# EAGLE library part SIM900 (library sim900)
Footprint for Sim900 board
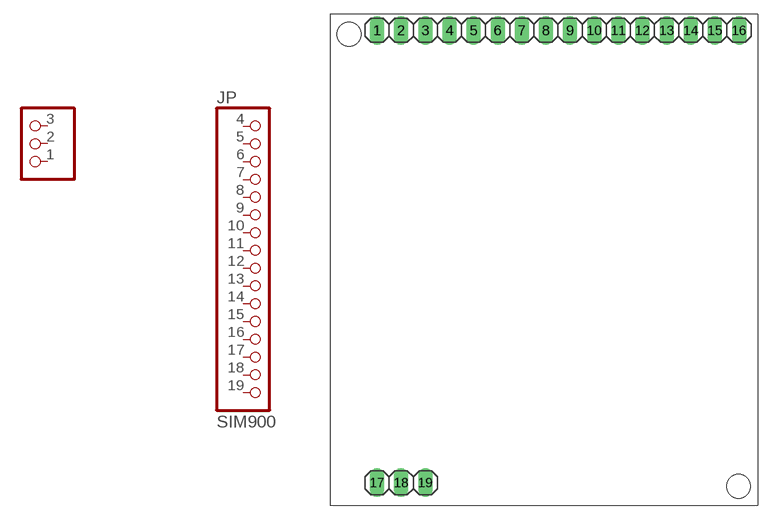
[diagram p0: symbol with the pads of SIM900; footprint SIM900]

Designator prefix JP

## SIM900  [SIM900]
1  1-PWR  pas
2  2-GND  pas
3  3-VCC  pas
4  4-MIC1P  pas
5  5-MIC1N  pas
6  6-VDO_EXT  pas
7  7-VRTC  pas
8  8-SPK1N  pas
9  9-SPK1P  pas
10  10-ADC  pas
11  11-AGND  pas
12  12-RI  pas
13  13-CTS  pas
14  14-RTS  pas
15  15-TX  pas
16  16-RX  pas
17  17-DTR  pas
18  18-DCD  pas
19  19-LED  pas

## Footprint SIM900 (pad centres in mm)
drill 1.016 long: 1 -19.05,0; 2 -16.51,0; 3 -13.97,0; 4 -11.43,0; 5 -8.89,0; 6 -6.35,0; 7 -3.81,0; 8 -1.27,0; 9 1.27,0; 10 3.81,0; 11 6.35,0; 12 8.89,0; 13 11.43,0; 14 13.97,0; 15 16.51,0; 16 19.05,0; 17 -19.05,-47.62; 18 -16.51,-47.62; 19 -13.97,-47.62
hole 2.5 at -22,-0.4
hole 2.5 at 19,-48